# EAGLE library part 6PIN (library headers)
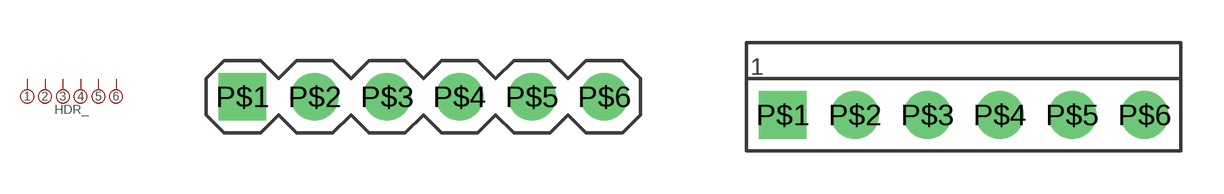
[diagram p0: symbol with the pads of 6PIN-PINS; footprints 6PIN-PINS, 6PIN-HDR]

Designator prefix HDR_

## 6PINPINS  [6PIN-PINS]
P$1  1
P$2  2
P$3  3
P$4  4
P$5  5
P$6  6

## 6PINHDR  [6PIN-HDR]
Pads as for 6PIN-PINS

## Footprint 6PIN-PINS (pad centres in mm)
drill 0.9 pad 1.676 square: P$1 -6.35,0
drill 0.9 pad 1.676: P$2 -3.81,0; P$3 -1.27,0; P$4 1.27,0; P$5 3.81,0; P$6 6.35,0

## Footprint 6PIN-HDR (pad centres in mm)
drill 0.9 pad 1.676 square: P$1 -6.35,0
drill 0.9 pad 1.676: P$2 -3.81,0; P$3 -1.27,0; P$4 1.27,0; P$5 3.81,0; P$6 6.35,0